# EAGLE library part HC-05 (library hc-xx)
HC-05 module is an easy to use Bluetooth SPP (Serial Port Protocol) module, designed for transparent wireless serial connection setup. Serial port Bluetooth module is fully qualified Bluetooth V2.0+EDR (Enhanced Data Rate) 3Mbps Modulation with complete 2.4GHz radio transceiver and baseband. It uses CSR Bluecore 04-External single chip Bluetooth system with CMOS technology and with AFH(Adaptive Frequency Hopping Feature). It has the footprint as small as 12.7mmx27mm. Hope it will simplify your overall design/development cycle.
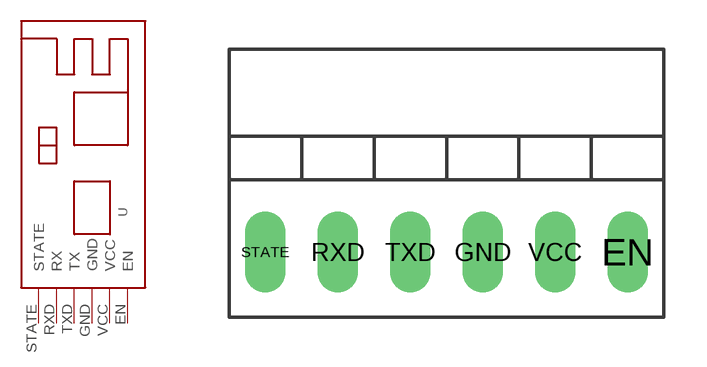
[diagram p0: symbol with the pads of HC-05; footprint HC-05]

Designator prefix -

## HC-05  [HC-05]
EN  EN
GND  GND
RXD  RX
STATE  STATE
TXD  TX
VCC  VCC

## Footprint HC-05 (pad centres in mm)
Modulo Bluetooth Slave
drill 0.6 pad 1.422 long: EN 6.35,-1.27; STATE -6.35,-1.27
drill 0.8 pad 1.422 long: GND 1.27,-1.27; RXD -3.81,-1.27; TXD -1.27,-1.27; VCC 3.81,-1.27